# Altium footprint library 主控制.PcbLib: 139 footprints (part 3 of 9)
Each footprint in its own frame and in the unit in brackets; x right, y up, seen from the top. Pads: shape width x height; smd on the part's side, far side on the other; paste and mask are expansions set on the pad; w line width, h text height; cw(c..) or ccw(c..) is an arc to the next point about the centre after c.
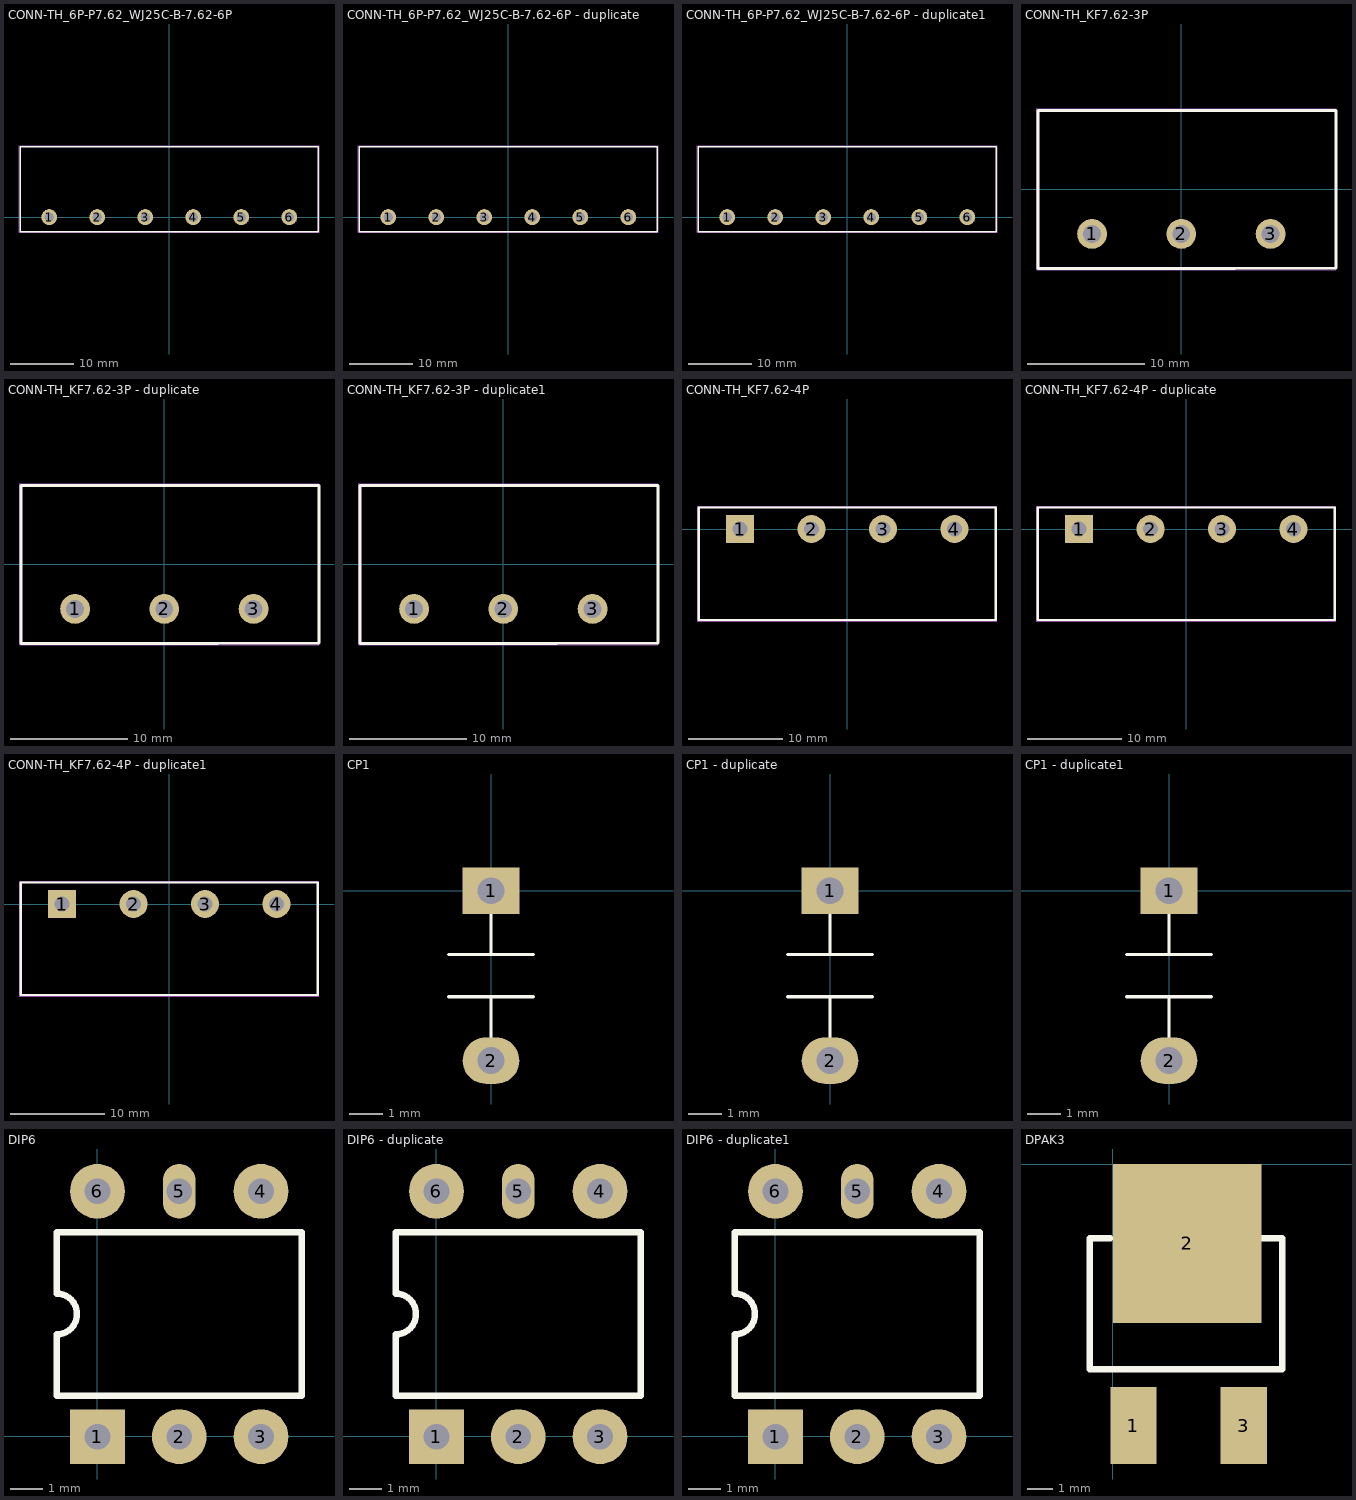
[diagram p2: the footprints below, top view; thin cyan lines are the x and y axes]

## CONN-TH_6P-P7.62_WJ25C-B-7.62-6P [mil]
pads (6):
  round 100 hole 60 paste+0 mask+2: 1(-750.49,0) 2(-450.29,0) 3(-150.1,0) 4(150.1,0) 5(450.3,0) 6(750.49,0)
Top Overlay:
  lines w10: -932.08,-90.75 -932.08,440.75 -269.68,440.75 30.52,440.75 330.71,440.75 931.11,440.75 931.11,-90.75 330.71,-90.75 30.52,-90.75 -269.68,-90.75 -932.08,-90.75
Mechanical 15:
  drawing of 11 lines, arcs and shapes, not listed

## CONN-TH_6P-P7.62_WJ25C-B-7.62-6P - duplicate [mil]
pads (6):
  round 100 hole 60 paste+0 mask+2: 1(-750.49,0) 2(-450.29,0) 3(-150.1,0) 4(150.1,0) 5(450.3,0) 6(750.49,0)
Top Overlay:
  lines w10: -932.08,-90.75 -932.08,440.75 -269.68,440.75 30.52,440.75 330.71,440.75 931.11,440.75 931.11,-90.75 330.71,-90.75 30.52,-90.75 -269.68,-90.75 -932.08,-90.75
Mechanical 15:
  drawing of 11 lines, arcs and shapes, not listed

## CONN-TH_6P-P7.62_WJ25C-B-7.62-6P - duplicate1 [mil]
pads (6):
  round 100 hole 60 paste+0 mask+2: 1(-750.49,0) 2(-450.29,0) 3(-150.1,0) 4(150.1,0) 5(450.3,0) 6(750.49,0)
Top Overlay:
  lines w10: -932.08,-90.75 -269.68,-90.75 30.52,-90.75 330.71,-90.75 931.11,-90.75 931.11,440.75 330.71,440.75 30.52,440.75 -269.68,440.75 -932.08,440.75 -932.08,-90.75
Mechanical 15:
  drawing of 11 lines, arcs and shapes, not listed

## CONN-TH_KF7.62-3P [mil]
pads (3):
  round 100 hole 60 paste+0 mask+2: 1(-300.19,-150) 2(0.01,-150) 3(300.19,-150)
Top Overlay:
  lines w10: -481.3,-265.75 -481.3,265.75 181.1,265.75 520.2,265.75 520.2,-265 181.1,-265.75 -481.3,-265.75
Mechanical 15:
  region: -483.94,270.75 -483.94,271.73 -485.32,273.11 -487.28,273.11 -488.66,271.73 -488.66,270.75 -488.66,269.77 -487.28,268.39 -485.32,268.39 -483.94,269.77
  region: 26.07,-150 26.07,-146.57 24.29,-139.94 20.86,-134 16.01,-129.14 10.07,-125.71 3.44,-123.94 -3.42,-123.94 -10.05,-125.71 -16,-129.14 -20.85,-134 -24.28,-139.94 -26.06,-146.57 -26.06,-150 -26.06,-153.43 -24.28,-160.06 -20.85,-166 -16,-170.85 -10.05,-174.28 -3.42,-176.06 3.44,-176.06 10.07,-174.28 16.01,-170.85 20.86,-166 24.29,-160.06 26.07,-153.43
  region: -274.13,-150 -274.13,-146.57 -275.91,-139.94 -279.34,-134 -284.19,-129.14 -290.13,-125.71 -296.76,-123.94 -303.62,-123.94 -310.25,-125.71 -316.2,-129.14 -321.05,-134 -324.48,-139.94 -326.26,-146.57 -326.26,-150 -326.26,-153.43 -324.48,-160.06 -321.05,-166 -316.2,-170.85 -310.25,-174.28 -303.62,-176.06 -296.76,-176.06 -290.13,-174.28 -284.19,-170.85 -279.34,-166 -275.91,-160.06 -274.13,-153.43
  region: 326.26,-150 326.26,-146.57 324.48,-139.94 321.05,-134 316.2,-129.14 310.26,-125.71 303.63,-123.94 296.77,-123.94 290.14,-125.71 284.19,-129.14 279.34,-134 275.91,-139.94 274.13,-146.57 274.13,-150 274.13,-153.43 275.91,-160.06 279.34,-166 284.19,-170.85 290.14,-174.28 296.77,-176.06 303.63,-176.06 310.26,-174.28 316.2,-170.85 321.05,-166 324.48,-160.06 326.26,-153.43
  lines w2: -486.3,-270.75 -486.3,270.75 520.2,270.75 520.2,-270.75 -486.3,-270.75

## CONN-TH_KF7.62-3P - duplicate [mil]
pads (3):
  round 100 hole 60 paste+0 mask+2: 1(-300.19,-150) 2(0.01,-150) 3(300.19,-150)
Top Overlay:
  lines w10: -481.3,-265.75 -481.3,265.75 181.1,265.75 520.2,265.75 520.2,-265 181.1,-265.75 -481.3,-265.75
Mechanical 15:
  region: -483.94,270.75 -483.94,271.73 -485.32,273.11 -487.28,273.11 -488.66,271.73 -488.66,270.75 -488.66,269.77 -487.28,268.39 -485.32,268.39 -483.94,269.77
  region: 26.07,-150 26.07,-146.57 24.29,-139.94 20.86,-134 16.01,-129.14 10.07,-125.71 3.44,-123.94 -3.42,-123.94 -10.05,-125.71 -16,-129.14 -20.85,-134 -24.28,-139.94 -26.06,-146.57 -26.06,-150 -26.06,-153.43 -24.28,-160.06 -20.85,-166 -16,-170.85 -10.05,-174.28 -3.42,-176.06 3.44,-176.06 10.07,-174.28 16.01,-170.85 20.86,-166 24.29,-160.06 26.07,-153.43
  region: -274.13,-150 -274.13,-146.57 -275.91,-139.94 -279.34,-134 -284.19,-129.14 -290.13,-125.71 -296.76,-123.94 -303.62,-123.94 -310.25,-125.71 -316.2,-129.14 -321.05,-134 -324.48,-139.94 -326.26,-146.57 -326.26,-150 -326.26,-153.43 -324.48,-160.06 -321.05,-166 -316.2,-170.85 -310.25,-174.28 -303.62,-176.06 -296.76,-176.06 -290.13,-174.28 -284.19,-170.85 -279.34,-166 -275.91,-160.06 -274.13,-153.43
  region: 326.26,-150 326.26,-146.57 324.48,-139.94 321.05,-134 316.2,-129.14 310.26,-125.71 303.63,-123.94 296.77,-123.94 290.14,-125.71 284.19,-129.14 279.34,-134 275.91,-139.94 274.13,-146.57 274.13,-150 274.13,-153.43 275.91,-160.06 279.34,-166 284.19,-170.85 290.14,-174.28 296.77,-176.06 303.63,-176.06 310.26,-174.28 316.2,-170.85 321.05,-166 324.48,-160.06 326.26,-153.43
  lines w2: -486.3,-270.75 -486.3,270.75 520.2,270.75 520.2,-270.75 -486.3,-270.75

## CONN-TH_KF7.62-3P - duplicate1 [mil]
pads (3):
  round 100 hole 60 paste+0 mask+2: 1(-300.19,-150) 2(0.01,-150) 3(300.19,-150)
Top Overlay:
  lines w10: -481.3,-265.75 181.1,-265.75 520.2,-265 520.2,265.75 181.1,265.75 -481.3,265.75 -481.3,-265.75
Mechanical 15:
  region: 326.26,-150 326.26,-146.57 324.48,-139.94 321.05,-134 316.2,-129.14 310.26,-125.71 303.63,-123.94 296.77,-123.94 290.14,-125.71 284.19,-129.14 279.34,-134 275.91,-139.94 274.13,-146.57 274.13,-150 274.13,-153.43 275.91,-160.06 279.34,-166 284.19,-170.85 290.14,-174.28 296.77,-176.06 303.63,-176.06 310.26,-174.28 316.2,-170.85 321.05,-166 324.48,-160.06 326.26,-153.43
  region: -274.13,-150 -274.13,-146.57 -275.91,-139.94 -279.34,-134 -284.19,-129.14 -290.13,-125.71 -296.76,-123.94 -303.62,-123.94 -310.25,-125.71 -316.2,-129.14 -321.05,-134 -324.48,-139.94 -326.26,-146.57 -326.26,-150 -326.26,-153.43 -324.48,-160.06 -321.05,-166 -316.2,-170.85 -310.25,-174.28 -303.62,-176.06 -296.76,-176.06 -290.13,-174.28 -284.19,-170.85 -279.34,-166 -275.91,-160.06 -274.13,-153.43
  region: 26.07,-150 26.07,-146.57 24.29,-139.94 20.86,-134 16.01,-129.14 10.07,-125.71 3.44,-123.94 -3.42,-123.94 -10.05,-125.71 -16,-129.14 -20.85,-134 -24.28,-139.94 -26.06,-146.57 -26.06,-150 -26.06,-153.43 -24.28,-160.06 -20.85,-166 -16,-170.85 -10.05,-174.28 -3.42,-176.06 3.44,-176.06 10.07,-174.28 16.01,-170.85 20.86,-166 24.29,-160.06 26.07,-153.43
  region: -483.94,270.75 -483.94,271.73 -485.32,273.11 -487.28,273.11 -488.66,271.73 -488.66,270.75 -488.66,269.77 -487.28,268.39 -485.32,268.39 -483.94,269.77
  lines w2: -486.3,-270.75 520.2,-270.75 520.2,270.75 -486.3,270.75 -486.3,-270.75

## CONN-TH_KF7.62-4P [mm]
pads (4):
  rect 3x3 hole 1.6 paste+0 mask+0.051: 1(-11.43,0)
  round 3 hole 1.6 paste+0 mask+0.051: 2(-3.81,0) 3(3.81,0) 4(11.43,0)
Top Overlay:
  lines w0.254: -15.84,-9.7 -15.84,2.3 15.84,2.3 15.84,-9.7 -15.84,-9.7
Mechanical 15:
  region: -10.73,0 -10.73,0.092 -10.778,0.27 -10.87,0.43 -11,0.56 -11.16,0.652 -11.338,0.7 -11.522,0.7 -11.7,0.652 -11.86,0.56 -11.99,0.43 -12.082,0.27 -12.13,0.092 -12.13,0 -12.13,-0.092 -12.082,-0.27 -11.99,-0.43 -11.86,-0.56 -11.7,-0.652 -11.522,-0.7 -11.338,-0.7 -11.16,-0.652 -11,-0.56 -10.87,-0.43 -10.778,-0.27 -10.73,-0.092
  region: -3.11,0 -3.11,0.092 -3.158,0.27 -3.25,0.43 -3.38,0.56 -3.54,0.652 -3.718,0.7 -3.902,0.7 -4.08,0.652 -4.24,0.56 -4.37,0.43 -4.462,0.27 -4.51,0.092 -4.51,0 -4.51,-0.092 -4.462,-0.27 -4.37,-0.43 -4.24,-0.56 -4.08,-0.652 -3.902,-0.7 -3.718,-0.7 -3.54,-0.652 -3.38,-0.56 -3.25,-0.43 -3.158,-0.27 -3.11,-0.092
  region: 4.51,0 4.51,0.092 4.462,0.27 4.37,0.43 4.24,0.56 4.08,0.652 3.902,0.7 3.718,0.7 3.54,0.652 3.38,0.56 3.25,0.43 3.158,0.27 3.11,0.092 3.11,0 3.11,-0.092 3.158,-0.27 3.25,-0.43 3.38,-0.56 3.54,-0.652 3.718,-0.7 3.902,-0.7 4.08,-0.652 4.24,-0.56 4.37,-0.43 4.462,-0.27 4.51,-0.092
  region: 12.13,0 12.13,0.092 12.082,0.27 11.99,0.43 11.86,0.56 11.7,0.652 11.522,0.7 11.338,0.7 11.16,0.652 11,0.56 10.87,0.43 10.778,0.27 10.73,0.092 10.73,0 10.73,-0.092 10.778,-0.27 10.87,-0.43 11,-0.56 11.16,-0.652 11.338,-0.7 11.522,-0.7 11.7,-0.652 11.86,-0.56 11.99,-0.43 12.082,-0.27 12.13,-0.092
  region: -15.907,-9.827 -15.907,-9.802 -15.942,-9.767 -15.992,-9.767 -16.027,-9.802 -16.027,-9.827 -16.027,-9.852 -15.992,-9.887 -15.942,-9.887 -15.907,-9.852
  lines w0.051: -15.967,-9.827 15.967,-9.827 15.967,2.427 -15.967,2.427 -15.967,-9.827

## CONN-TH_KF7.62-4P - duplicate [mm]
pads (4):
  rect 3x3 hole 1.6 paste+0 mask+0.051: 1(-11.43,0)
  round 3 hole 1.6 paste+0 mask+0.051: 2(-3.81,0) 3(3.81,0) 4(11.43,0)
Top Overlay:
  lines w0.254: -15.84,-9.7 -15.84,2.3 15.84,2.3 15.84,-9.7 -15.84,-9.7
Mechanical 15:
  region: -10.73,0 -10.73,0.092 -10.778,0.27 -10.87,0.43 -11,0.56 -11.16,0.652 -11.338,0.7 -11.522,0.7 -11.7,0.652 -11.86,0.56 -11.99,0.43 -12.082,0.27 -12.13,0.092 -12.13,0 -12.13,-0.092 -12.082,-0.27 -11.99,-0.43 -11.86,-0.56 -11.7,-0.652 -11.522,-0.7 -11.338,-0.7 -11.16,-0.652 -11,-0.56 -10.87,-0.43 -10.778,-0.27 -10.73,-0.092
  region: -3.11,0 -3.11,0.092 -3.158,0.27 -3.25,0.43 -3.38,0.56 -3.54,0.652 -3.718,0.7 -3.902,0.7 -4.08,0.652 -4.24,0.56 -4.37,0.43 -4.462,0.27 -4.51,0.092 -4.51,0 -4.51,-0.092 -4.462,-0.27 -4.37,-0.43 -4.24,-0.56 -4.08,-0.652 -3.902,-0.7 -3.718,-0.7 -3.54,-0.652 -3.38,-0.56 -3.25,-0.43 -3.158,-0.27 -3.11,-0.092
  region: 4.51,0 4.51,0.092 4.462,0.27 4.37,0.43 4.24,0.56 4.08,0.652 3.902,0.7 3.718,0.7 3.54,0.652 3.38,0.56 3.25,0.43 3.158,0.27 3.11,0.092 3.11,0 3.11,-0.092 3.158,-0.27 3.25,-0.43 3.38,-0.56 3.54,-0.652 3.718,-0.7 3.902,-0.7 4.08,-0.652 4.24,-0.56 4.37,-0.43 4.462,-0.27 4.51,-0.092
  region: 12.13,0 12.13,0.092 12.082,0.27 11.99,0.43 11.86,0.56 11.7,0.652 11.522,0.7 11.338,0.7 11.16,0.652 11,0.56 10.87,0.43 10.778,0.27 10.73,0.092 10.73,0 10.73,-0.092 10.778,-0.27 10.87,-0.43 11,-0.56 11.16,-0.652 11.338,-0.7 11.522,-0.7 11.7,-0.652 11.86,-0.56 11.99,-0.43 12.082,-0.27 12.13,-0.092
  region: -15.907,-9.827 -15.907,-9.802 -15.942,-9.767 -15.992,-9.767 -16.027,-9.802 -16.027,-9.827 -16.027,-9.852 -15.992,-9.887 -15.942,-9.887 -15.907,-9.852
  lines w0.051: -15.967,-9.827 15.967,-9.827 15.967,2.427 -15.967,2.427 -15.967,-9.827

## CONN-TH_KF7.62-4P - duplicate1 [mm]
pads (4):
  rect 3x3 hole 1.6 paste+0 mask+0.051: 1(-11.43,0)
  round 3 hole 1.6 paste+0 mask+0.051: 2(-3.81,0) 3(3.81,0) 4(11.43,0)
Top Overlay:
  lines w0.254: -15.84,-9.7 -15.84,2.3 15.84,2.3 15.84,-9.7 -15.84,-9.7
Mechanical 15:
  region: -10.73,0 -10.73,0.092 -10.778,0.27 -10.87,0.43 -11,0.56 -11.16,0.652 -11.338,0.7 -11.522,0.7 -11.7,0.652 -11.86,0.56 -11.99,0.43 -12.082,0.27 -12.13,0.092 -12.13,0 -12.13,-0.092 -12.082,-0.27 -11.99,-0.43 -11.86,-0.56 -11.7,-0.652 -11.522,-0.7 -11.338,-0.7 -11.16,-0.652 -11,-0.56 -10.87,-0.43 -10.778,-0.27 -10.73,-0.092
  region: -3.11,0 -3.11,0.092 -3.158,0.27 -3.25,0.43 -3.38,0.56 -3.54,0.652 -3.718,0.7 -3.902,0.7 -4.08,0.652 -4.24,0.56 -4.37,0.43 -4.462,0.27 -4.51,0.092 -4.51,0 -4.51,-0.092 -4.462,-0.27 -4.37,-0.43 -4.24,-0.56 -4.08,-0.652 -3.902,-0.7 -3.718,-0.7 -3.54,-0.652 -3.38,-0.56 -3.25,-0.43 -3.158,-0.27 -3.11,-0.092
  region: 4.51,0 4.51,0.092 4.462,0.27 4.37,0.43 4.24,0.56 4.08,0.652 3.902,0.7 3.718,0.7 3.54,0.652 3.38,0.56 3.25,0.43 3.158,0.27 3.11,0.092 3.11,0 3.11,-0.092 3.158,-0.27 3.25,-0.43 3.38,-0.56 3.54,-0.652 3.718,-0.7 3.902,-0.7 4.08,-0.652 4.24,-0.56 4.37,-0.43 4.462,-0.27 4.51,-0.092
  region: 12.13,0 12.13,0.092 12.082,0.27 11.99,0.43 11.86,0.56 11.7,0.652 11.522,0.7 11.338,0.7 11.16,0.652 11,0.56 10.87,0.43 10.778,0.27 10.73,0.092 10.73,0 10.73,-0.092 10.778,-0.27 10.87,-0.43 11,-0.56 11.16,-0.652 11.338,-0.7 11.522,-0.7 11.7,-0.652 11.86,-0.56 11.99,-0.43 12.082,-0.27 12.13,-0.092
  region: -15.907,-9.827 -15.907,-9.802 -15.942,-9.767 -15.992,-9.767 -16.027,-9.802 -16.027,-9.827 -16.027,-9.852 -15.992,-9.887 -15.942,-9.887 -15.907,-9.852
  lines w0.051: -15.967,-9.827 15.967,-9.827 15.967,2.427 -15.967,2.427 -15.967,-9.827

## CP1 [mm]
pads (2):
  rect 1.7x1.397 hole 0.8: 1(0,0)
  oval 1.7x1.397 hole 0.8: 2(0,-5.08)
Top Overlay:
  lines w0.102: -1.27,-3.175 1.27,-3.175 ; -1.27,-1.905 1.27,-1.905 ; 0,-5.08 0,-3.175 ; 0,-1.905 0,0

## CP1 - duplicate [mm]
pads (2):
  rect 1.7x1.397 hole 0.8: 1(0,0)
  oval 1.7x1.397 hole 0.8: 2(0,-5.08)
Top Overlay:
  lines w0.102: -1.27,-3.175 1.27,-3.175 ; -1.27,-1.905 1.27,-1.905 ; 0,-5.08 0,-3.175 ; 0,-1.905 0,0

## CP1 - duplicate1 [mm]
pads (2):
  rect 1.7x1.397 hole 0.8: 1(0,0)
  oval 1.7x1.397 hole 0.8: 2(0,-5.08)
Top Overlay:
  lines w0.102: -1.27,-3.175 1.27,-3.175 ; -1.27,-1.905 1.27,-1.905 ; 0,-5.08 0,-3.175 ; 0,-1.905 0,0

## DIP6 [mm]
pads (6):
  rect 1.7x1.7 hole 0.8: 1(0.009,-0.006)
  round 1.7 hole 0.8: 2(2.549,-0.006) 3(5.089,-0.006) 4(5.089,7.614) 6(0.009,7.614)
  oval 1.016x1.7 hole 0.8: 5(2.549,7.614)
Top Overlay:
  lines w0.2: -1.261,1.264 6.359,1.264 6.359,6.344 -1.261,6.344 -1.261,4.439 cw(c-1.261,3.804) -1.261,3.169 -1.261,1.264

## DIP6 - duplicate [mm]
pads (6):
  rect 1.7x1.7 hole 0.8: 1(0.009,-0.006)
  round 1.7 hole 0.8: 2(2.549,-0.006) 3(5.089,-0.006) 4(5.089,7.614) 6(0.009,7.614)
  oval 1.016x1.7 hole 0.8: 5(2.549,7.614)
Top Overlay:
  lines w0.2: -1.261,1.264 6.359,1.264 6.359,6.344 -1.261,6.344 -1.261,4.439 cw(c-1.261,3.804) -1.261,3.169 -1.261,1.264

## DIP6 - duplicate1 [mm]
pads (6):
  rect 1.7x1.7 hole 0.8: 1(0.009,-0.006)
  round 1.7 hole 0.8: 2(2.549,-0.006) 3(5.089,-0.006) 4(5.089,7.614) 6(0.009,7.614)
  oval 1.016x1.7 hole 0.8: 5(2.549,7.614)
Top Overlay:
  lines w0.2: -1.261,1.264 6.359,1.264 6.359,6.344 -1.261,6.344 -1.261,4.439 cw(c-1.261,3.804) -1.261,3.169 -1.261,1.264

## DPAK3 [mm]
pads (3):
  rect 1.8x3 smd: 1(0.8,-10.2) 3(5.1,-10.2)
  rect 5.8x6.2 smd: 2(2.9,-3.1)
Top Overlay:
  lines w0.254: -0.1,-2.9 -0.9,-2.9 -0.9,-8 6.6,-8 6.6,-2.9 5.8,-2.9